# EAGLE library part SIMPLE (library example-lib)
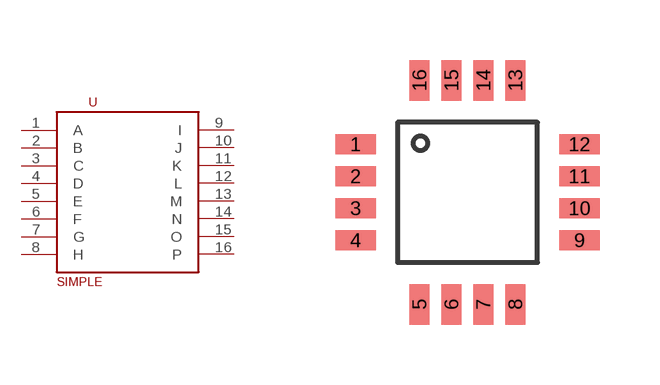
[diagram p0: symbol with the pads of TQFP16; footprint TQFP16]

Designator prefix -

## SIMPLE-TQFP  [TQFP16]
1  A
2  B
3  C
4  D
5  E
6  F
7  G
8  H
9  I
10  J
11  K
12  L
13  M
14  N
15  O
16  P

## Footprint TQFP16 (pad centres in mm)
smd 1.016 x 0.508: 1 -2.8,1.2; 2 -2.8,0.4; 3 -2.8,-0.4; 4 -2.8,-1.2; 9 2.8,-1.2; 10 2.8,-0.4; 11 2.8,0.4; 12 2.8,1.2
smd 0.508 x 1.016: 5 -1.2,-2.8; 6 -0.4,-2.8; 7 0.4,-2.8; 8 1.2,-2.8; 13 1.2,2.8; 14 0.4,2.8; 15 -0.4,2.8; 16 -1.2,2.8